# EAGLE library part CC1R5-XXXXXR-E (library dc-dc-converter)
Isolated Module DC DC Converter Isolated Module DC DC Converter Output 5V 300mA 18V - 36V Input
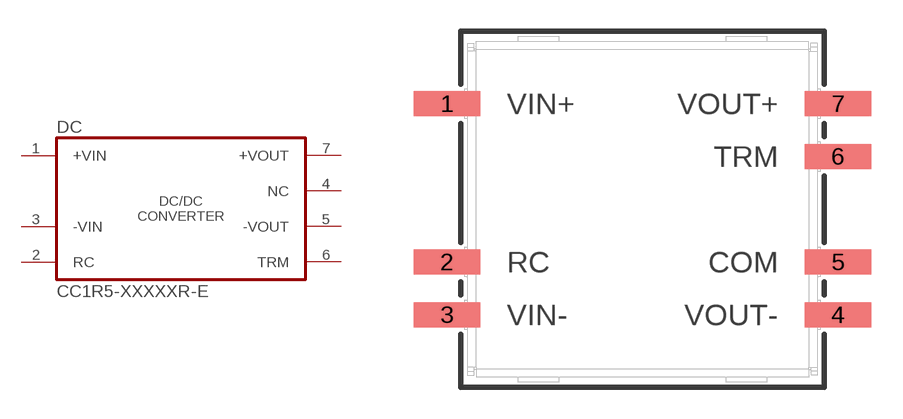
[diagram p16: symbol with the pads of CC1R5-XXXXXR-E; footprint CC1R5-XXXXXR-E]

Designator prefix DC

## CC1R5-XXXXXR-E  [CC1R5-XXXXXR-E]
1  +VIN  pas
2  RC  pas
3  -VIN  pas
4  NC  pas
5  -VOUT  pas
6  TRM  pas
7  +VOUT  pas

## Footprint CC1R5-XXXXXR-E (pad centres in mm)
DC DC CONVERTOR
smd 3.2 x 1.2: 1 -9.4,5.08; 2 -9.4,-2.54; 3 -9.4,-5.08; 4 9.4,-5.08; 5 9.4,-2.54; 6 9.4,2.54; 7 9.4,5.08